# Altium schematic symbol library Mounting Holes.SchLib: 1 symbol
Pins are listed as number, name and electrical type; pins without a type are passive.

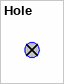
[diagram p0: symbol Hole]

## Hole
designator P?  (value not drawn)
Hole
footprint 1/4 Screw Hole, No Contact
footprint 1/8 Screw Hole, No Contact
footprint 1/4 Screw Hole, w/ Contact
footprint 1/8 Screw Hole, w/ Contact